# Altium footprint library HIROSE DF13-4P-1.25H.PCBLIB: 1 footprints
Each footprint in its own frame and in the unit in brackets; x right, y up, seen from the top. Pads: shape width x height; smd on the part's side, far side on the other; paste and mask are expansions set on the pad; w line width, h text height; cw(c..) or ccw(c..) is an arc to the next point about the centre after c.
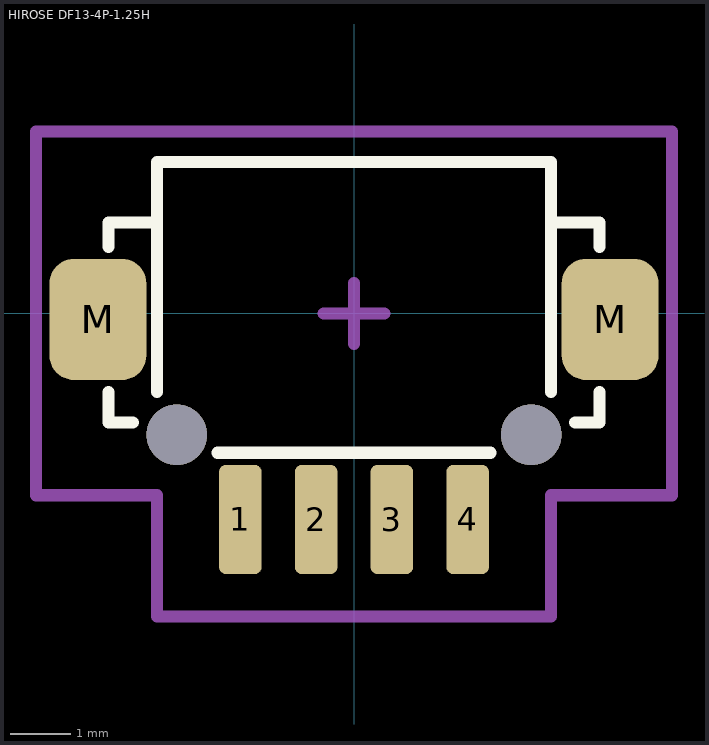
[diagram p0: the footprint, top view; thin cyan lines are the x and y axes]

## HIROSE DF13-4P-1.25H [mm] "DF13 Series 1.25mm pitch miniature crimping connector single row"
height 3.6
pads (6):
  rrect30% 0.7x1.8 smd: 1(-1.875,-3.4) 2(-0.625,-3.4) 3(0.625,-3.4) 4(1.875,-3.4)
  rrect50% 1.6x2 smd: M(-4.225,-0.1) M(4.225,-0.1)
via -2.925,-2 diameter 1 hole 1
via 2.925,-2 diameter 1 hole 1
Top Overlay:
  lines w0.2: -4.05,-1.3 -4.05,-1.8 -3.65,-1.8 ; -4.05,1.1 -4.05,1.5 -3.25,1.5 ; -3.25,-1.3 -3.25,2.5 -1.25,2.5 2,2.5 3.25,2.5 3.25,-1.3 ; -2.25,-2.3 -1.25,-2.3 -0.625,-2.3 1.25,-2.3 2.25,-2.3 ; 3.25,1.5 4.05,1.5 4.05,1.1 ; 3.65,-1.8 4.05,-1.8 4.05,-1.3
Mechanical 15:
  lines w0.2: -0.5,0 0.5,0 ; 0,-0.5 0,0.5 ; -5.25,-3 -5.25,2.5 -5.25,3 -1.25,3 4,3 5.25,3 5.25,2.5 5.25,-3 3.25,-3 3.25,-5 -1.25,-5 -3.25,-5 -3.25,-3 -5.25,-3
3D body "DF13-4P-1.25H_X_8A_S_H_X_97_S__.STEP": height 3.59, standoff -0.81, extent -4.825,-3.9 4.825,2.6